# EAGLE library part TFBS_4650-TR1 (library IRDA_Transreceiver)
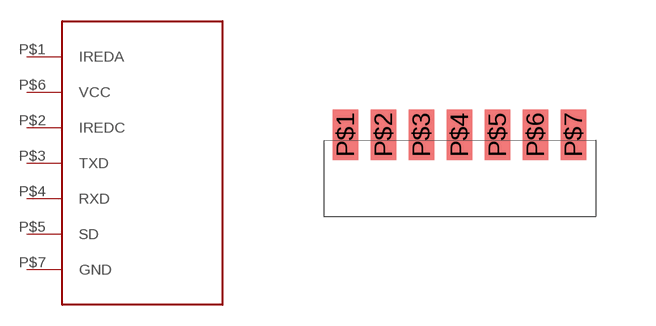
[diagram p0: symbol with the pads of TFBS_4650-TR1; footprint TFBS_4650-TR1]

Designator prefix -

## TFBS_4650-TR1  [TFBS_4650-TR1]
P$1  IREDA
P$2  IREDC
P$3  TXD
P$4  RXD
P$5  SD
P$6  VCC
P$7  GND

## Footprint TFBS_4650-TR1 (pad centres in mm)
smd 0.64 x 1.27: P$1 -2.85,1.14; P$2 -1.9,1.14; P$3 -0.95,1.14; P$4 0,1.14; P$5 0.95,1.14; P$6 1.9,1.14; P$7 2.85,1.14